# Altium footprint library PCB_ConnectorCable.PcbLib: 60 footprints (part 1 of 4)
Each footprint in its own frame and in the unit in brackets; x right, y up, seen from the top. Pads: shape width x height; smd on the part's side, far side on the other; paste and mask are expansions set on the pad; w line width, h text height; cw(c..) or ccw(c..) is an arc to the next point about the centre after c.
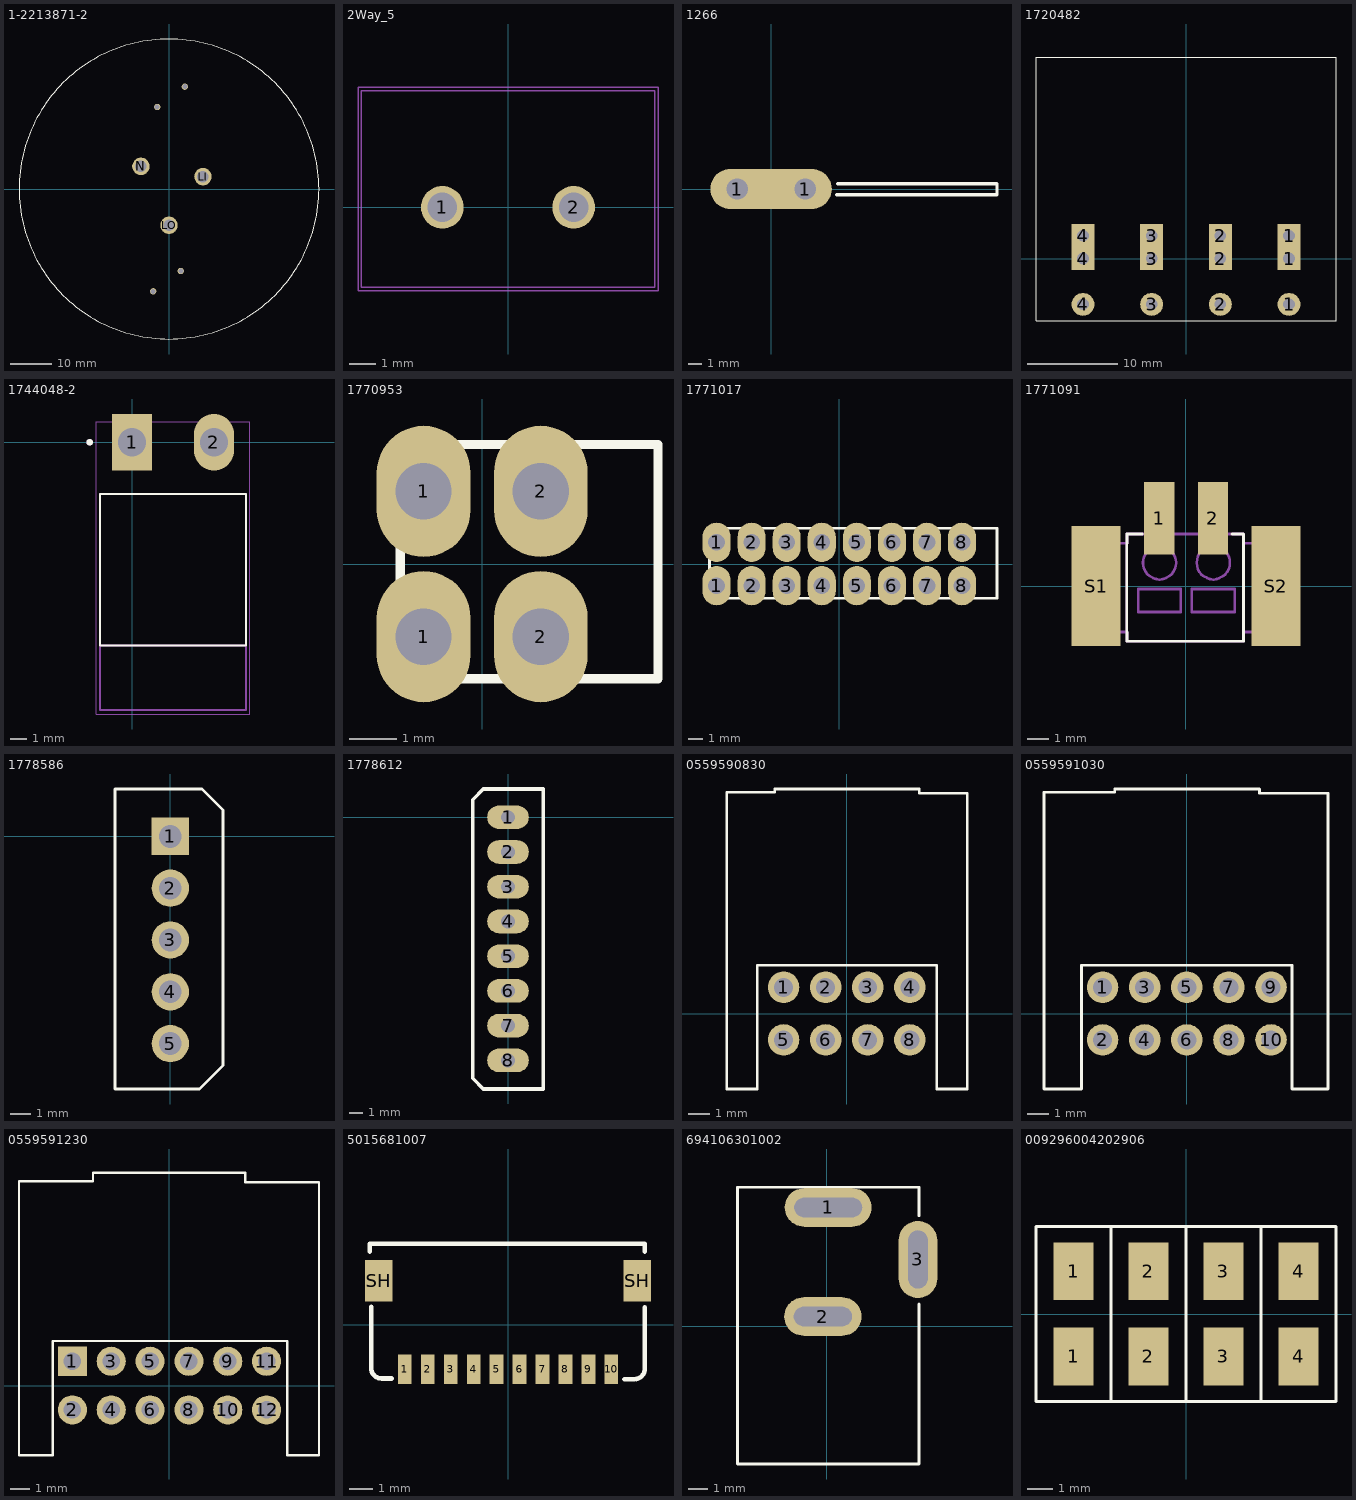
[diagram p0: the footprints below, top view; thin cyan lines are the x and y axes]

## 1-2213871-2 [mm] "LIGHT CONTROLLER BASE ASSY,81MM"
pads (7):
  round 1.524 hole 1.2: 4(-2.83,19.68) 5(3.8,24.57) 6(2.83,-19.68) 7(-3.8,-24.57)
  round 4.2 hole 2.75: LI(8.15,2.95) LO(0,-8.7) N(-6.75,5.45)
Top Overlay:
  circle w0.1: c0,0 r36
3D body "c-2213871-2-a-3d.stp": height 3.53, standoff -32.55, extent -57.06,-57.06 57.06,57.06

## 2Way_5 [mil]
height 501.97
pads (2):
  round 64 hole 44: 1(-98.43,0) 2(98.43,0)
Mechanical 13:
  lines w2: -220,-120 -220,175 220,175 220,-120 -220,-120
T-Component:
  lines w2: -225,-125 225,-125 225,180 -225,180 -225,-125
3D body "38261.stp": height 590.55, standoff -137.8, extent -224.65,-185 197.8,189.02

## 1266 [mm]
pads (2):
  oval 6x3 hole 1.6 copper offset 1,0: 1(-2.537,0)
  oval 6x3 hole 1.6 copper offset -1,0: 1(2.538,0)
Top Overlay:
  lines w0.254: 4.912,-0.431 16.878,-0.431 16.878,0.406 4.962,0.406
3D body "keystone-PN1266.STEP": height 8.9, standoff -3.8, extent -3.163,-0.406 16.878,0.406

## 1720482 [mm]
pads (12):
  round 2.54 hole 1.3: 1(11.43,-5.08) 2(3.81,-5.08) 3(-3.81,-5.08) 4(-11.43,-5.08)
  rect 2.54x2.54 hole 1.3: 1(11.43,0) 1(11.43,2.54) 2(3.81,0) 2(3.81,2.54) 3(-3.81,0) 3(-3.81,2.54) 4(-11.43,0) 4(-11.43,2.54)
Top Overlay:
  lines w0.127: -16.64,-6.91 -16.64,22.34 16.64,22.34 16.64,-6.91 -16.64,-6.91
3D body "1720482_02.stp": height 14.22, standoff -4.99, extent -16.643,-6.878 16.637,22.372

## 1744048-2 [mm]
pads (2):
  rect 2.5x3.5 hole 1.75: 1(0,0)
  oval 2.5x3.5 hole 1.75: 2(5.08,0)
Top Overlay:
  circle w0.2: c-2.63,0 r0.1
  lines w0.127: -1.98,-12.6 -1.98,-3.2 7.06,-3.2 7.06,-12.6 -1.98,-12.6
Mechanical 13:
  circle w0.2: c-2.63,0 r0.1
  lines w0.127: -1.98,-12.6 -1.98,-3.2 7.06,-3.2 7.06,-12.6 ; -1.98,-12.6 7.06,-12.6 ; -1.98,-12.6 -1.98,-16.6 7.06,-16.6 7.06,-12.6
Mechanical 15:
  lines w0.05: -2.23,-16.85 -2.23,1.275 7.31,1.275 7.31,-16.85 -2.23,-16.85
3D body "c-1744048-02-o-3d.stp": height 8.7, standoff -3.42, extent -1.94,-14.985 7.1,0.585

## 1770953 [mm]
pads (4):
  rrect100% 2x2.8 hole 1.2 paste-2539.97 mask+0.14: 1(-1.25,-1.55) 1(-1.25,1.55) 2(1.25,-1.55) 2(1.25,1.55)
Top Overlay:
  lines w0.2: 3.731,2.55 -1.75,2.55 -1.75,-2.45 3.741,-2.45 ; 3.75,-2.45 3.75,2.55
3D body "1770953_00.stp": height 11.71, standoff -1.59, extent -2.159,-4.351 3.841,4.249

## 1771017 [mm]
pads (16):
  rrect100% 2x2.8 hole 1.2 paste-2539.97 mask+0.14: 1(-8.75,-1.55) 1(-8.75,1.55) 2(-6.25,-1.55) 2(-6.25,1.55) 3(-3.75,-1.55) 3(-3.75,1.55) 4(-1.25,-1.55) 4(-1.25,1.55) 5(1.25,-1.55) 5(1.25,1.55) 6(3.75,-1.55) 6(3.75,1.55) 7(6.25,-1.55) 7(6.25,1.55) 8(8.75,-1.55) 8(8.75,1.55)
Top Overlay:
  lines w0.2: -9.25,-2.45 11.25,-2.45 11.25,2.55 -9.25,2.55 -9.25,-2.45
3D body "1771017_00.stp": height 11.71, standoff -1.59, extent -9.4,-4.351 11.1,4.249

## 1771091 [mil]
pads (4):
  rect 56x134 smd: 1(-49.21,125) 2(50,125)
  rect 91x221 smd: S1(-165.35,0) S2(166,0)
Top Overlay:
  lines w5: -108.89,96 -108.89,-101.24 106,-101.24 ; -108.45,-84.52 -108.45,-101.24 106,-101.24 ; -108.45,79 -108.45,93 -108.45,96 -80.35,96 ; 85,96 106,96 106,-101.24
Mechanical 16:
  drawing of 201 lines, arcs and shapes, not listed
3D body "277-2072-2-ND.stp": height 354.78, standoff 0.31, extent -198.88,-105 198.88,170.59

## 1778586 [mm]
pads (5):
  rect 1.8x1.8 hole 1.1: 1(0,0)
  round 1.8 hole 1.1: 2(0,-2.5) 3(0,-5) 4(0,-7.5) 5(0,-10)
Top Overlay:
  lines w0.127: 1.397,-12.192 -2.667,-12.192 -2.667,2.286 1.524,2.286 2.413,1.397 2.54,1.27 2.54,-11.049 ; 1.397,-12.192 2.54,-11.049 ; 1.397,-12.192 2.54,-11.049
3D body "1778586-Connector.STEP": height 7.5, standoff -2.1, extent -2.54,-12.053 2.46,2.147

## 1778612 [mm] "TERM BLOCK HDR 8POS VERT 2.5MM"
pads (8):
  oval 3x1.7 hole 1: 1(0,0) 2(0,-2.5) 3(0,-5) 4(0,-7.5) 5(0,-10) 6(0,-12.5) 7(0,-15) 8(0,-17.5)
Top Overlay:
  lines w0.254: -2.54,-18.796 -2.54,1.27 -1.778,2.032 2.54,2.032 2.54,-19.558 -1.778,-19.558 -2.54,-18.796
3D body "okkk.step": height 7.51, standoff -2.09, extent -2.475,-19.57 2.525,2.134
3D body: height 0.25, standoff 0, extent -1.016,-8.89 -1.016,-8.89
3D body "1778890_01.stp": height 18.05, standoff 3.05, extent -2.5,-19.268 2.5,1.832

## 0559590830 [mm] "2.0 WTB DUAL CONN DIP PLG HSG"
pads (8):
  round 1.5 hole 0.9 unplated: 1(-3,1.25) 2(-1,1.25) 3(1,1.25) 4(3,1.25) 5(-3,-1.25) 6(-1,-1.25) 7(1,-1.25) 8(3,-1.25)
Top Overlay:
  lines w0.127: -5.699,-3.581 -5.699,10.519 -3.424,10.519 -3.424,10.669 3.451,10.669 3.451,10.469 5.726,10.469 5.726,-3.581 4.276,-3.581 4.276,2.294 -4.249,2.294 -4.249,-3.581 -5.699,-3.581
3D body "559590830.stp": height 11.71, standoff -3.19, extent -5.749,-3.581 5.651,10.919

## 0559591030 [mm] "2.0 WTB DUAL CONN DIP PLG HSG"
pads (10):
  round 1.5 hole 0.9 unplated: 1(-4,1.25) 2(-4,-1.25) 3(-2,1.25) 4(-2,-1.25) 5(0,1.25) 6(0,-1.25) 7(2,1.25) 8(2,-1.25) 9(4,1.25) 10(4,-1.25)
Top Overlay:
  lines w0.127: -6.782,-3.581 -6.782,10.519 -3.424,10.519 -3.424,10.669 3.451,10.669 3.451,10.469 6.706,10.469 6.706,-3.581 5,-3.581 5,2.294 -5,2.294 -5,-3.581 -6.782,-3.581
3D body "559591030.stp": height 11.85, standoff -3.05, extent -6.7,-3.55 6.7,10.95

## 0559591230 [mm] "2.0 WTB DUAL CONN DIP PLG HSG"
pads (12):
  rect 1.5x1.5 hole 0.9 unplated: 1(-5,1.25)
  round 1.5 hole 0.9 unplated: 2(-5,-1.25) 3(-3,1.25) 4(-3,-1.25) 5(-1,1.25) 6(-1,-1.25) 7(1,1.25) 8(1,-1.25) 9(3,1.25) 10(3,-1.25) 11(5,1.25) 12(5,-1.25)
Top Overlay:
  lines w0.127: -7.747,-3.581 -7.747,10.519 -3.937,10.519 -3.937,10.95 3.912,10.95 3.912,10.469 4.65,10.469 7.696,10.469 7.696,-3.581 6.073,-3.581 6.073,2.294 -6,2.294 -6,-3.581 -7.747,-3.581
3D body "559591230.stp": height 11.71, standoff -3.19, extent -7.7,-3.55 7.7,10.95

## 5015681007 [mm]
pads (12):
  rect 0.6x1.3 smd: 1(-4.496,-1.93) 2(-3.496,-1.93) 3(-2.496,-1.93) 4(-1.496,-1.93) 5(-0.496,-1.93) 6(0.504,-1.93) 7(1.504,-1.93) 8(2.504,-1.93) 9(3.504,-1.93) 10(4.504,-1.93)
  rect 1.2x1.8 smd: SH(-5.639,1.93) SH(5.639,1.93)
Top Overlay:
  lines w0.2: -6.02,3.2 -6.02,3.531 5.969,3.531 5.969,3.2 ; -5.969,0.787 -5.969,-1.88 ccw(c-5.512,-1.88) -5.512,-2.337 -5.08,-2.337 ; 5.08,-2.362 5.512,-2.362 ccw(c5.512,-1.905) 5.969,-1.905 5.969,0.762
3D body "5015681007.stp": height 4.71, standoff 0.01, extent -6,-2.387 6,3.513

## 694106301002 [mil]
pads (3):
  oval 180x80 hole 40 slot 140 at 0 deg: 1(2.57,245.86)
  oval 160x80 hole 40 slot 120 at 0 deg: 2(-8.43,20.14)
  oval 80x160 hole 40 slot 120 at 90 deg: 3(188.43,138.25)
Top Overlay:
  lines w5.91: 190.57,45.86 190.57,-285.14 -185.43,-285.14 -185.43,287.86 189.57,287.86 190.57,287.86 190.57,228.86
3D body "STEP-694106301002-rev1.stp": height 421.76, standoff -149.11, extent -183.43,-282.57 190.59,288.3

## 009296004202906 [mm]
pads (8):
  rect 1.6x2.3 smd: 1(-4.5,-1.7) 1(-4.5,1.7) 2(-1.5,-1.7) 2(-1.5,1.7) 3(1.5,-1.7) 3(1.5,1.7) 4(4.5,-1.7) 4(4.5,1.7)
Top Overlay:
  lines w0.127: -3,-3.5 0,-3.5 ; -3,-3.5 -3,3.5 ; -3,-3.5 -6,-3.5 -6,3.5 -3,3.5 ; -3,-3.5 -3,3.5 ; -3,3.5 0,3.5 ; 0,-3.5 3,-3.5 ; 0,-3.5 0,3.5 ; 0,-3.5 0,3.5 ; 0,3.5 3,3.5 ; 3,-3.5 6,-3.5 6,3.5 3,3.5 ; 3,-3.5 3,3.5 ; 3,-3.5 3,3.5
3D body "AVX-00-9296-004-202-906_00-9296-004-202-906.SLDPRT": height 2.54, standoff 0.01, extent -6,-3.5 6,3.5